# EAGLE library part ADUM3070 (library own_parts2)
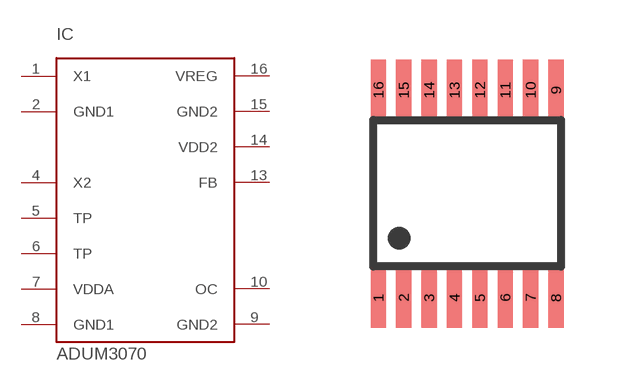
[diagram p24: symbol with the pads of QSOP16; footprint QSOP16]

Designator prefix IC

## ADUM3070QSOP-16  [QSOP16]
1  X1
2  GND1
4  X2
5  TP
6  TP
7  VDDA
8  GND1
9  GND2
10  OC
13  FB
14  VDD2
15  GND2
16  VREG

## Footprint QSOP16 (pad centres in mm)
16-Lead Shrink Small Outline Package QSOP (RQ-16) Source: ADG658_659.pdf
smd 0.381 x 1.5: 1 -2.223,-2.6; 2 -1.587,-2.6; 3 -0.953,-2.6; 4 -0.318,-2.6; 5 0.318,-2.6; 6 0.953,-2.6; 7 1.587,-2.6; 8 2.223,-2.6; 9 2.223,2.6; 10 1.587,2.6; 11 0.953,2.6; 12 0.318,2.6; 13 -0.318,2.6; 14 -0.953,2.6; 15 -1.587,2.6; 16 -2.223,2.6